# Altium schematic symbol library USB2512B-AEZG.SchLib: 1 symbol
Pins are listed as number, name and electrical type; pins without a type are passive.

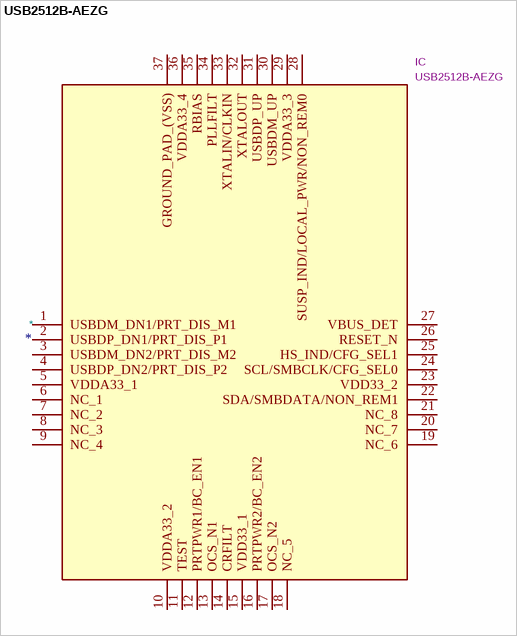
[diagram p0: symbol USB2512B-AEZG]

## USB2512B-AEZG
designator *  value USB2512B-AEZG  Reference: IC
Manufacturer_Name: Microchip; ki_description: USB 2.0 Hub Controller 2-Port BC QFN36 Microchip USB2512B-AEZG, USB Controller, 480MBps, USB 2.0, 3.3 V, 36-Pin QFN; Footprint: QFN50P600X600X100-37N-D; Datasheet: http://www.microchip.com/mymicrochip/filehandler.aspx?ddocname=en562310; Height: 1; Manufacturer_Part_Number: USB2512B-AEZG; Mouser Part Number: 886-USB2512B-AEZG; Mouser Price/Stock: https://www.mouser.co.uk/ProductDetail/Microchip-Technology/USB2512B-AEZG?qs=pA5MXup5wxGNvJiLqKVEsA%3D%3D; Arrow Part Number: USB2512B-AEZG; Arrow Price/Stock: https://www.arrow.com/en/products/usb2512b-aezg/microchip-technology?region=nac
pins: 1 USBDM_DN1/PRT_DIS_M1, 2 USBDP_DN1/PRT_DIS_P1, 3 USBDM_DN2/PRT_DIS_M2, 4 USBDP_DN2/PRT_DIS_P2, 5 VDDA33_1, 6 NC_1, 7 NC_2, 8 NC_3, 9 NC_4, 10 VDDA33_2, 11 TEST, 12 PRTPWR1/BC_EN1, 13 OCS_N1, 14 CRFILT, 15 VDD33_1, 16 PRTPWR2/BC_EN2, 17 OCS_N2, 18 NC_5, 19 NC_6, 20 NC_7, 21 NC_8, 22 SDA/SMBDATA/NON_REM1, 23 VDD33_2, 24 SCL/SMBCLK/CFG_SEL0, 25 HS_IND/CFG_SEL1, 26 RESET_N, 27 VBUS_DET, 28 SUSP_IND/LOCAL_PWR/NON_REM0, 29 VDDA33_3, 30 USBDM_UP, 31 USBDP_UP, 32 XTALOUT, 33 XTALIN/CLKIN, 34 PLLFILT, 35 RBIAS, 36 VDDA33_4, 37 GROUND_PAD_(VSS)